# EAGLE library part EPM7128-?100 (library altera_pga84)
EPM70128 MAX 7000 family
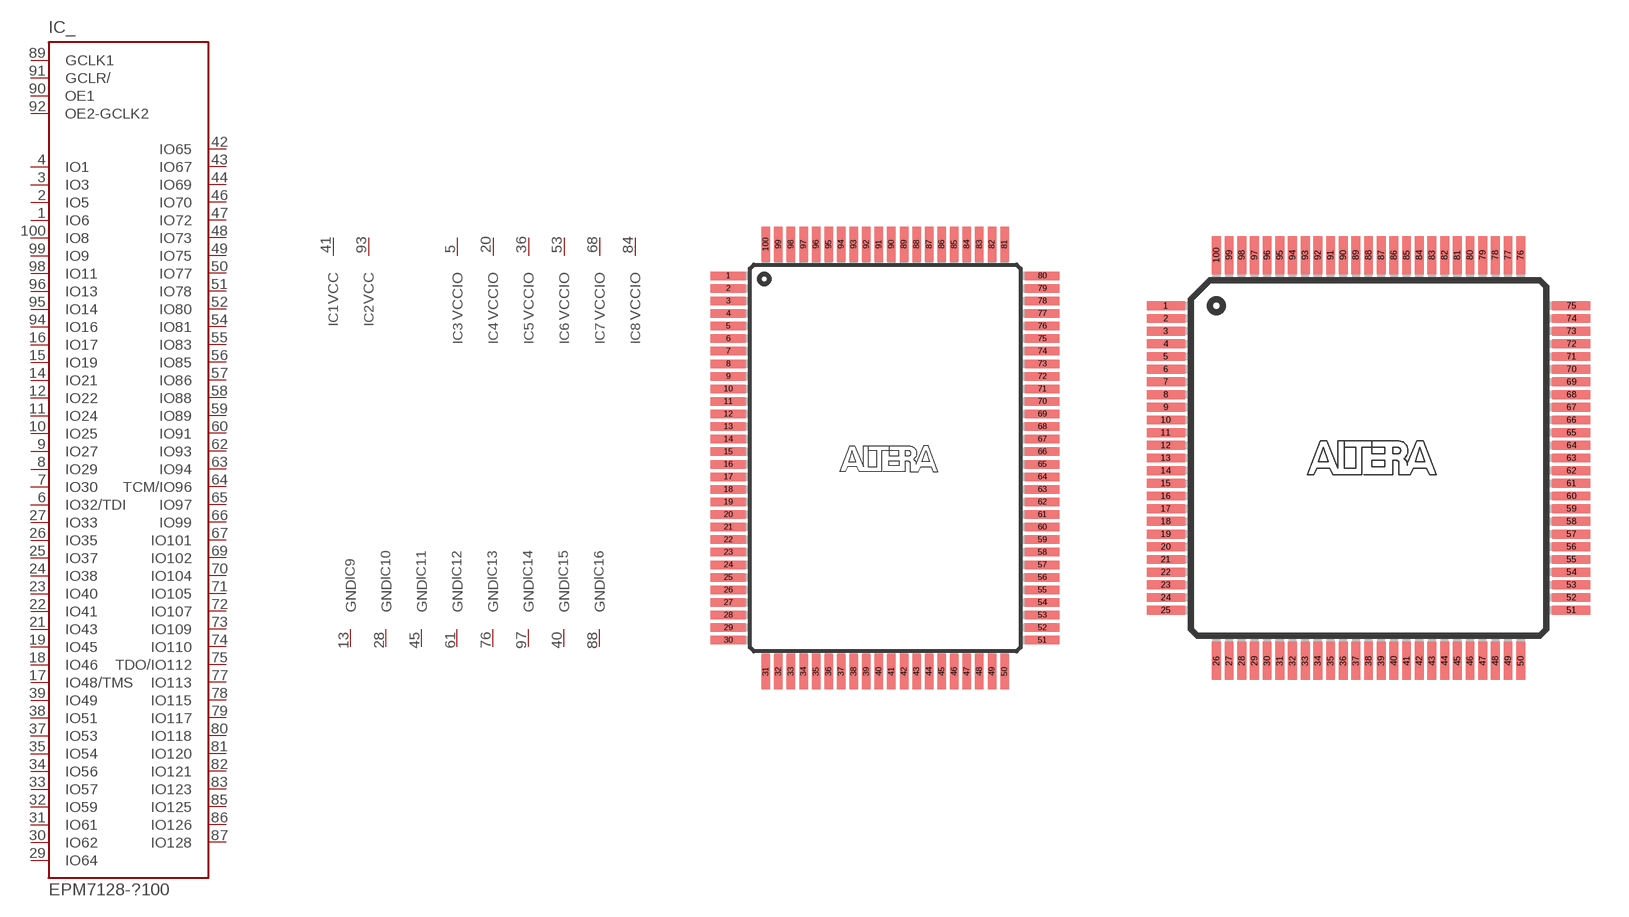
[diagram p10: symbol with the pads of PQFP100; footprints PQFP100, TQFP100]

Designator prefix IC; gates _=7128P100 1=VCC 2=VCC 3=VCCIO 4=VCCIO 5=VCCIO 6=VCCIO 7=VCCIO 8=VCCIO 9=GND 10=GND 11=GND 12=GND 13=GND 14=GND 15=GND 16=GND

## EPM7128-P100 (MPN: EPM7128SQC100-7N; OC_FARNELL: 1549424; OC_NEWARK: 51R0530)  [PQFP100]
1  _:IO6
2  _:IO5
3  _:IO3
4  _:IO1
5  3:VCCIO  pwr
6  _:IO32/TDI
7  _:IO30
8  _:IO29
9  _:IO27
10  _:IO25
11  _:IO24
12  _:IO22
13  9:GND  pwr
14  _:IO21
15  _:IO19
16  _:IO17
17  _:IO48/TMS
18  _:IO46
19  _:IO45
20  4:VCCIO  pwr
21  _:IO43
22  _:IO41
23  _:IO40
24  _:IO38
25  _:IO37
26  _:IO35
27  _:IO33
28  10:GND  pwr
29  _:IO64
30  _:IO62
31  _:IO61
32  _:IO59
33  _:IO57
34  _:IO56
35  _:IO54
36  5:VCCIO  pwr
37  _:IO53
38  _:IO51
39  _:IO49
40  15:GND  pwr
41  1:VCC  pwr
42  _:IO65
43  _:IO67
44  _:IO69
45  11:GND  pwr
46  _:IO70
47  _:IO72
48  _:IO73
49  _:IO75
50  _:IO77
51  _:IO78
52  _:IO80
53  6:VCCIO  pwr
54  _:IO81
55  _:IO83
56  _:IO85
57  _:IO86
58  _:IO88
59  _:IO89
60  _:IO91
61  12:GND  pwr
62  _:IO93
63  _:IO94
64  _:TCM/IO96
65  _:IO97
66  _:IO99
67  _:IO101
68  7:VCCIO  pwr
69  _:IO102
70  _:IO104
71  _:IO105
72  _:IO107
73  _:IO109
74  _:IO110
75  _:TDO/IO112
76  13:GND  pwr
77  _:IO113
78  _:IO115
79  _:IO117
80  _:IO118
81  _:IO120
82  _:IO121
83  _:IO123
84  8:VCCIO  pwr
85  _:IO125
86  _:IO126
87  _:IO128
88  16:GND  pwr
89  _:GCLK1  in
90  _:OE1  in
91  _:GCLR/  in
92  _:OE2-GCLK2  in
93  2:VCC  pwr
94  _:IO16
95  _:IO14
96  _:IO13
97  14:GND  pwr
98  _:IO11
99  _:IO9
100  _:IO8

## EPM7128-T100 (MPN: EPM7128STC100-7N; OC_FARNELL: 1549427; OC_NEWARK: 51R9778)  [TQFP100]
1  _:IO3
2  _:IO1
3  3:VCCIO  pwr
4  _:IO32/TDI
5  _:IO30
6  _:IO29
7  _:IO27
8  _:IO25
9  _:IO24
10  _:IO22
11  9:GND  pwr
12  _:IO21
13  _:IO19
14  _:IO17
15  _:IO48/TMS
16  _:IO46
17  _:IO45
18  4:VCCIO  pwr
19  _:IO43
20  _:IO41
21  _:IO40
22  _:IO38
23  _:IO37
24  _:IO35
25  _:IO33
26  10:GND  pwr
27  _:IO64
28  _:IO62
29  _:IO61
30  _:IO59
31  _:IO57
32  _:IO56
33  _:IO54
34  5:VCCIO  pwr
35  _:IO53
36  _:IO51
37  _:IO49
38  16:GND  pwr
39  1:VCC  pwr
40  _:IO65
41  _:IO67
42  _:IO69
43  11:GND  pwr
44  _:IO70
45  _:IO72
46  _:IO73
47  _:IO75
48  _:IO77
49  _:IO78
50  _:IO80
51  6:VCCIO  pwr
52  _:IO81
53  _:IO83
54  _:IO85
55  _:IO86
56  _:IO88
57  _:IO89
58  _:IO91
59  12:GND  pwr
60  _:IO93
61  _:IO94
62  _:TCM/IO96
63  _:IO97
64  _:IO99
65  _:IO101
66  7:VCCIO  pwr
67  _:IO102
68  _:IO104
69  _:IO105
70  _:IO107
71  _:IO109
72  _:IO110
73  _:TDO/IO112
74  13:GND  pwr
75  _:IO113
76  _:IO115
77  _:IO117
78  _:IO118
79  _:IO120
80  _:IO121
81  _:IO123
82  8:VCCIO  pwr
83  _:IO125
84  _:IO126
85  _:IO128
86  14:GND  pwr
87  _:GCLK1  in
88  _:OE1  in
89  _:GCLR/  in
90  _:OE2-GCLK2  in
91  2:VCC  pwr
92  _:IO16
93  _:IO14
94  _:IO13
95  15:GND  pwr
96  _:IO11
97  _:IO9
98  _:IO8
99  _:IO6
100  _:IO5

## Footprint PQFP100 (pad centres in mm)
Plastic Quad Flat Pack
smd 1.8 x 0.44: 1 -8.125,9.425; 2 -8.125,8.775; 3 -8.125,8.125; 4 -8.125,7.475; 5 -8.125,6.825; 6 -8.125,6.175; 7 -8.125,5.525; 8 -8.125,4.875; 9 -8.125,4.225; 10 -8.125,3.575; 11 -8.125,2.925; 12 -8.125,2.275; 13 -8.125,1.625; 14 -8.125,0.975; 15 -8.125,0.325; 16 -8.125,-0.325; 17 -8.125,-0.975; 18 -8.125,-1.625; 19 -8.125,-2.275; 20 -8.125,-2.925; 21 -8.125,-3.575; 22 -8.125,-4.225; 23 -8.125,-4.875; 24 -8.125,-5.525; 25 -8.125,-6.175; 26 -8.125,-6.825; 27 -8.125,-7.475; 28 -8.125,-8.125; 29 -8.125,-8.775; 30 -8.125,-9.425; 51 8.125,-9.425; 52 8.125,-8.775; 53 8.125,-8.125; 54 8.125,-7.475; 55 8.125,-6.825; 56 8.125,-6.175; 57 8.125,-5.525; 58 8.125,-4.875; 59 8.125,-4.225; 60 8.125,-3.575; 61 8.125,-2.925; 62 8.125,-2.275; 63 8.125,-1.625; 64 8.125,-0.975; 65 8.125,-0.325; 66 8.125,0.325; 67 8.125,0.975; 68 8.125,1.625; 69 8.125,2.275; 70 8.125,2.925; 71 8.125,3.575; 72 8.125,4.225; 73 8.125,4.875; 74 8.125,5.525; 75 8.125,6.175; 76 8.125,6.825; 77 8.125,7.475; 78 8.125,8.125; 79 8.125,8.775; 80 8.125,9.425
smd 0.44 x 1.8: 31 -6.175,-11.05; 32 -5.525,-11.05; 33 -4.875,-11.05; 34 -4.225,-11.05; 35 -3.575,-11.05; 36 -2.925,-11.05; 37 -2.275,-11.05; 38 -1.625,-11.05; 39 -0.975,-11.05; 40 -0.325,-11.05; 41 0.325,-11.05; 42 0.975,-11.05; 43 1.625,-11.05; 44 2.275,-11.05; 45 2.925,-11.05; 46 3.575,-11.05; 47 4.225,-11.05; 48 4.875,-11.05; 49 5.525,-11.05; 50 6.175,-11.05; 81 6.175,11.05; 82 5.525,11.05; 83 4.875,11.05; 84 4.225,11.05; 85 3.575,11.05; 86 2.925,11.05; 87 2.275,11.05; 88 1.625,11.05; 89 0.975,11.05; 90 0.325,11.05; 91 -0.325,11.05; 92 -0.975,11.05; 93 -1.625,11.05; 94 -2.275,11.05; 95 -2.925,11.05; 96 -3.575,11.05; 97 -4.225,11.05; 98 -4.875,11.05; 99 -5.525,11.05; 100 -6.175,11.05

## Footprint TQFP100 (pad centres in mm)
Plastic Thin Quad Flat Pack
smd 1.5 x 0.35: 1 -8,6; 2 -8,5.5; 3 -8,5; 4 -8,4.5; 5 -8,4; 6 -8,3.5; 7 -8,3; 8 -8,2.5; 9 -8,2; 10 -8,1.5; 11 -8,1; 12 -8,0.5; 13 -8,0; 14 -8,-0.5; 15 -8,-1; 16 -8,-1.5; 17 -8,-2; 18 -8,-2.5; 19 -8,-3; 20 -8,-3.5; 21 -8,-4; 22 -8,-4.5; 23 -8,-5; 24 -8,-5.5; 25 -8,-6; 51 8,-6; 52 8,-5.5; 53 8,-5; 54 8,-4.5; 55 8,-4; 56 8,-3.5; 57 8,-3; 58 8,-2.5; 59 8,-2; 60 8,-1.5; 61 8,-1; 62 8,-0.5; 63 8,0; 64 8,0.5; 65 8,1; 66 8,1.5; 67 8,2; 68 8,2.5; 69 8,3; 70 8,3.5; 71 8,4; 72 8,4.5; 73 8,5; 74 8,5.5; 75 8,6
smd 0.35 x 1.5: 26 -6,-8; 27 -5.5,-8; 28 -5,-8; 29 -4.5,-8; 30 -4,-8; 31 -3.5,-8; 32 -3,-8; 33 -2.5,-8; 34 -2,-8; 35 -1.5,-8; 36 -1,-8; 37 -0.5,-8; 38 0,-8; 39 0.5,-8; 40 1,-8; 41 1.5,-8; 42 2,-8; 43 2.5,-8; 44 3,-8; 45 3.5,-8; 46 4,-8; 47 4.5,-8; 48 5,-8; 49 5.5,-8; 50 6,-8; 76 6,8; 77 5.5,8; 78 5,8; 79 4.5,8; 80 4,8; 81 3.5,8; 82 3,8; 83 2.5,8; 84 2,8; 85 1.5,8; 86 1,8; 87 0.5,8; 88 0,8; 89 -0.5,8; 90 -1,8; 91 -1.5,8; 92 -2,8; 93 -2.5,8; 94 -3,8; 95 -3.5,8; 96 -4,8; 97 -4.5,8; 98 -5,8; 99 -5.5,8; 100 -6,8